# Altium schematic symbol library Basic Components.SchLib: 38 symbols
Pins are listed as number, name and electrical type; pins without a type are passive.

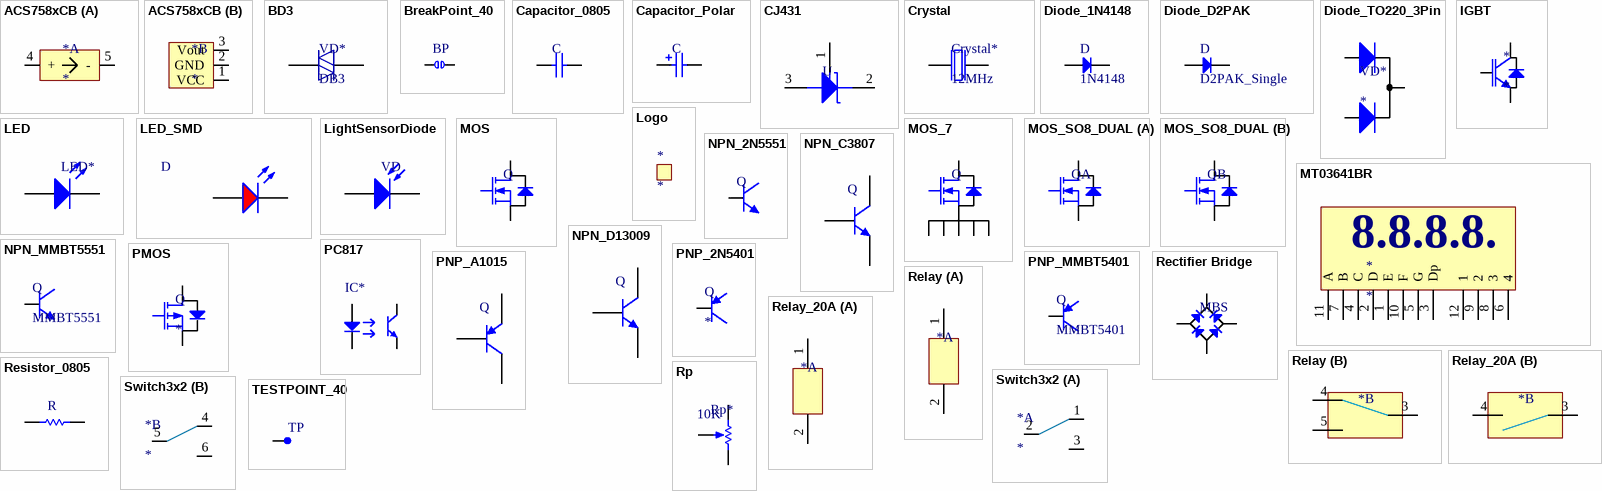
[diagram p0: symbols ACS758xCB to TESTPOINT_40]

## ACS758xCB
designator *
footprint ACS758xCB_PFF
part A pins: 4 +, 5 -
part B pins: 1 VCC, 2 GND, 3 Vout

## BD3
designator VD*, comment DB3
footprint DB3
pins: 1, 2

## BreakPoint_40
designator BP
footprint BreakPoint_40 (40mil)
pins: 1, 2

## Capacitor_0805
designator C
footprint 0805_C
pins: 1, 2

## Capacitor_Polar
designator C
pins: 1 A, 2 K

## CJ431
designator U  (value not drawn)
SuppliersPartNumber: C3113
footprint SOT-23-3 (SOT-23; 3 Leads; Body 3.0 x 2.5 mm, inc. leads (LxW max))
pins: 1 Ref, 2 C(K), 3 A

## Crystal
designator Crystal*, comment 12MHz
footprint Crystal
pins: 1 A, 2 K

## Diode_1N4148
designator D, comment 1N4148
SuppliersPartNumber: C2128
footprint LL-34
pins: 1 A, 2 K

## Diode_D2PAK
designator D, comment D2PAK_Single
footprint D2PAK
pins: 2 K, 3 A

## Diode_TO220_3Pin
designator VD*
footprint TO220
pins: 1 A1, 2 K, 3 A2

## IGBT
designator *
footprint TO-247 (SIP with Mounting Hole; 3 Leads; Body 20 x 15.6 x 5 mm (typ); Pitch 5.45 mm)
pins: 1 G, 2 C, 3 E

## LED
designator LED*  (value not drawn)
footprint LED_3mm
pins: 1 A, 2 K

## LED_SMD
designator D
footprint 0603_LED_S1
pins: A, K

## LightSensorDiode
designator VD  (value not drawn)
footprint LED_3mm
pins: 1 A, 2 K

## Logo
designator *
footprint Rikka Github
footprint Reimu
footprint UNSW Logo
footprint Boris

## MOS
designator Q  (value not drawn)
footprint TO220
footprint SC70-3 (SC70/SOT-323 (DCK) Package. 3-Lead Plastic SC70.)
footprint TO-252-2 (TO-252-2,TD03B)
footprint TO-263
pins: 1 G, 2 D, 3 S

## MOS_7
designator Q  (value not drawn)
footprint D2PAK-7
pins: 1 G, 2 S, 3 S, 5 S, 6 S, 7 S, 8 D

## MOS_SO8_DUAL
designator Q  (value not drawn)
footprint SO-8
part A pins: 1 S, 2 G, 7 D, 8 D
part B pins: 3 S, 4 G, 5 D, 6 D

## MT03641BR
designator *
footprint MT03641BR
pins: 1 E, 2 D, 3 Dp, 4 C, 5 G, 6 4, 7 B, 8 3, 9 2, 10 F, 11 A, 12 1
text: 8.8.8.8.

## NPN_2N5551
designator Q, comment 2N5551  (value not drawn)
footprint SOT-23-3 (SOT-23; 3 Leads; Body 3.0 x 2.5 mm, inc. leads (LxW max))
pins: 1 E, 2 B, 3 C

## NPN_C3807
designator Q  (value not drawn)
Vceo: *; Vcbo: *; Ice: *; Beta: *
footprint TO126
pins: 1 E, 2 C, 3 B

## NPN_D13009
designator Q  (value not drawn)
Vceo: *; Vcbo: *; Ice: *; Beta: *
footprint TO220
footprint TO-247 (SIP with Mounting Hole; 3 Leads; Body 20 x 15.6 x 5 mm (typ); Pitch 5.45 mm)
footprint TO-247 A (SIP with Mounting Hole; 3 Leads; Body 20 x 15.6 x 5 mm (typ); Pitch 5.45 mm)
footprint TO126
pins: 1 B, 2 C, 3 E

## NPN_MMBT5551
designator Q, comment MMBT5551
SuppliersPartNumber: C2145
footprint SOT-23-3 (SOT-23; 3 Leads; Body 3.0 x 2.5 mm, inc. leads (LxW max))
pins: 1 B, 2 E, 3 C

## PC817
designator IC*  (value not drawn)
footprint DIP-4
pins: 1 A, 2 K, 3 E, 4 C

## PMOS
designator Q
footprint TO220
pins: 1 G, 2 D, 3 S

## PNP_2N5401
designator Q
footprint TO-92B (TO, Flat Index; 3 In-Line, Axial Leads; Body Dia. 4.5mm; Leads 0.51 x 0.48 mm (max))
pins: 1 E, 2 B, 3 C

## PNP_A1015
designator Q  (value not drawn)
footprint TO-92B (TO, Flat Index; 3 In-Line, Axial Leads; Body Dia. 4.5mm; Leads 0.51 x 0.48 mm (max))
pins: 1 B, 1 E, 2 C

## PNP_MMBT5401
designator Q, comment MMBT5401
SuppliersPartNumber: C8326
footprint SOT-23-3 (SOT-23; 3 Leads; Body 3.0 x 2.5 mm, inc. leads (LxW max))
pins: 1 B, 2 E, 3 C

## Rectifier Bridge
designator MBS  (value not drawn)
footprint Bridge-25A1200V
footprint Bridge-4A600V
pins: 1 +, 2 Ac, 3 Ac, 4 -

## Relay
designator *  (value not drawn)
footprint Relay_5V
part A pins: 1 VCC, 2 GND
part B pins: 3, 4, 5

## Relay_20A
designator *  (value not drawn)
footprint G4A-1A-PE-DC12V
part A pins: 1 VCC, 2 GND
part B pins: 3, 4

## Resistor_0805
designator R
SuppliersPartNumber: *
footprint 0805_R
pins: 1, 2

## Rp
designator Rp*  value 10K  (hidden comment: *)
footprint Rp (Thru-Hole; 3 Leads)
pins: 1 TOP, 2 TAP, 3 BOT

## Switch3x2
designator *
part A pins: 1, 2, 3
part B pins: 4, 5, 6

## TESTPOINT_40
designator TP
SMT Test Point
footprint TESTPOINT_40 (SMT Test Point)
pins: 1

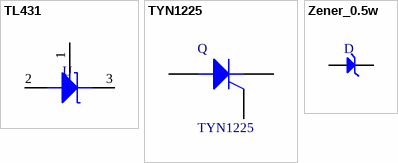
[diagram p1: symbols TL431 to Zener_0.5w]

## TL431
designator U
footprint TO-92B (TO, Flat Index; 3 In-Line, Axial Leads; Body Dia. 4.5mm; Leads 0.51 x 0.48 mm (max))
pins: 1 Ref, 2 A, 3 C(K)

## TYN1225
designator Q
Silicon Controlled Rectifier
footprint TO-220-AB (TO, Thru-Hole, Vertical, Heatsink Mounted; 3 In-Line Leads; Pitch 2.54 mm)
pins: 1 K, 2 A, 3 G

## Zener_0.5w
designator D
footprint LL-34
pins: 1 A, 2 K